# Altium footprint library AnalogDevices.PcbLib: 4 footprints
Each footprint in its own frame and in the unit in brackets; x right, y up, seen from the top. Pads: shape width x height; smd on the part's side, far side on the other; paste and mask are expansions set on the pad; w line width, h text height; cw(c..) or ccw(c..) is an arc to the next point about the centre after c.
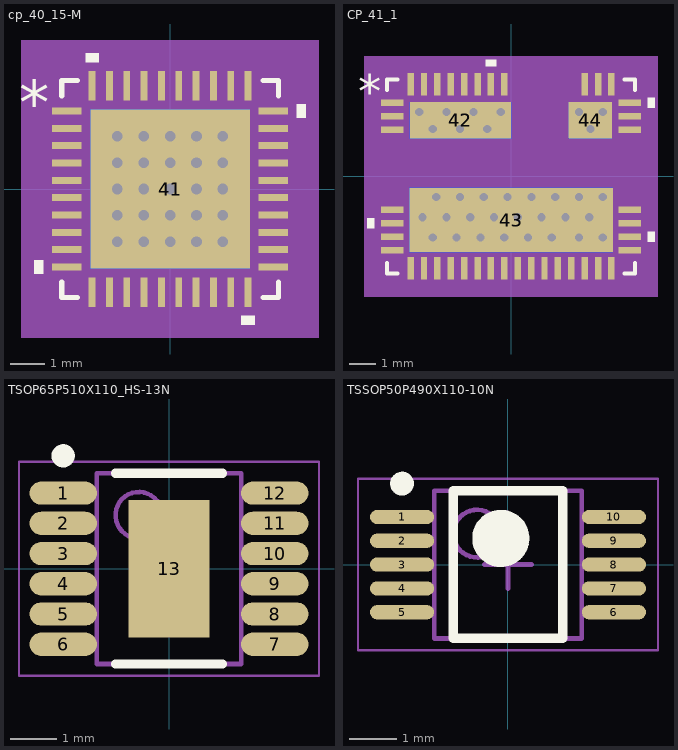
[diagram p0: the footprints below, top view; thin cyan lines are the x and y axes]

## cp_40_15-M [mm]
pads (42):
  rect 0.856x0.198 smd paste+0 mask+0: 1(-2.978,2.25) 2(-2.978,1.75) 3(-2.978,1.25) 4(-2.978,0.75) 5(-2.978,0.25) 6(-2.978,-0.25) 7(-2.978,-0.75) 8(-2.978,-1.25) 9(-2.978,-1.75) 10(-2.978,-2.25) 21(2.978,-2.25) 22(2.978,-1.75) 23(2.978,-1.25) 24(2.978,-0.75) 25(2.978,-0.25) 26(2.978,0.25) 27(2.978,0.75) 28(2.978,1.25) 29(2.978,1.75) 30(2.978,2.25)
  rect 0.198x0.856 smd paste+0 mask+0: 11(-2.25,-2.978) 12(-1.75,-2.978) 13(-1.25,-2.978) 14(-0.75,-2.978) 15(-0.25,-2.978) 16(0.25,-2.978) 17(0.75,-2.978) 18(1.25,-2.978) 19(1.75,-2.978) 20(2.25,-2.978) 31(2.25,2.978) 32(1.75,2.978) 33(1.25,2.978) 34(0.75,2.978) 35(0.25,2.978) 36(-0.25,2.978) 37(-0.75,2.978) 38(-1.25,2.978) 39(-1.75,2.978) 40(-2.25,2.978)
  rect 4.6x4.6 smd paste-2.287 mask+0: 41(0,0)
  rect 4.6x4.6 smd far side paste-2.287 mask+0: 41(0,0)
via -1.524,1.524 diameter 0.508 hole 0.305
via -0.762,1.524 diameter 0.508 hole 0.305
via 0,1.524 diameter 0.508 hole 0.305
via 0.762,1.524 diameter 0.508 hole 0.305
via 1.524,1.524 diameter 0.508 hole 0.305
via 1.524,-1.524 diameter 0.508 hole 0.305
via 0.762,-1.524 diameter 0.508 hole 0.305
via 0,-1.524 diameter 0.508 hole 0.305
via -0.762,-1.524 diameter 0.508 hole 0.305
via -1.524,-1.524 diameter 0.508 hole 0.305
via -1.524,-0.762 diameter 0.508 hole 0.305
via -0.762,-0.762 diameter 0.508 hole 0.305
via 0,-0.762 diameter 0.508 hole 0.305
via 0.762,-0.762 diameter 0.508 hole 0.305
via 1.524,-0.762 diameter 0.508 hole 0.305
via 1.524,0 diameter 0.508 hole 0.305
via 0.762,0 diameter 0.508 hole 0.305
via 0,0 diameter 0.508 hole 0.305
via -0.762,0 diameter 0.508 hole 0.305
via -1.524,0 diameter 0.508 hole 0.305
via 1.524,0.762 diameter 0.508 hole 0.305
via 0.762,0.762 diameter 0.508 hole 0.305
via 0,0.762 diameter 0.508 hole 0.305
via -0.762,0.762 diameter 0.508 hole 0.305
via -1.524,0.762 diameter 0.508 hole 0.305
Top Overlay:
  region: -3.66,-2.06 -3.914,-2.06 -3.914,-2.441 -3.66,-2.441
  region: 2.441,-3.66 2.06,-3.66 2.06,-3.914 2.441,-3.914
  region: 3.66,2.441 3.914,2.441 3.914,2.06 3.66,2.06
  region: -2.06,3.66 -2.441,3.66 -2.441,3.914 -2.06,3.914
  lines w0.152: -3.127,-2.682 -3.127,-3.127 -2.682,-3.127 ; -3.127,2.682 -3.127,3.127 -2.682,3.127 ; 2.682,-3.127 3.127,-3.127 3.127,-2.682 ; 2.682,3.127 3.127,3.127 3.127,2.682
  text "*" at -4.359,1.865 h1.27
Top Paste:
  region: -0.867,2.2 -2.2,2.2 -2.2,0.867 -0.867,0.867
  region: -0.867,0.667 -2.2,0.667 -2.2,-0.667 -0.867,-0.667
  region: -0.867,-0.867 -2.2,-0.867 -2.2,-2.2 -0.867,-2.2
  region: 0.667,2.2 -0.667,2.2 -0.667,0.867 0.667,0.867
  region: 0.667,0.667 -0.667,0.667 -0.667,-0.667 0.667,-0.667
  region: 0.667,-0.867 -0.667,-0.867 -0.667,-2.2 0.667,-2.2
  region: 2.2,2.2 0.867,2.2 0.867,0.867 2.2,0.867
  region: 2.2,0.667 0.867,0.667 0.867,-0.667 2.2,-0.667
  region: 2.2,-0.867 0.867,-0.867 0.867,-2.2 2.2,-2.2
Mechanical 5:
  region: 4.295,-4.295 -4.295,-4.295 -4.295,4.295 4.295,4.295
Mechanical 15:
  lines w0.025: -3,1.73 -1.73,3 ; -3,-3 -3,3 3,3 3,-3 -3,-3 ; -3,-2.4 -3,-2.1 -3,-2.4 ; -3,-1.9 -3,-1.6 -3,-1.9 ; -3,-1.4 -3,-1.1 -3,-1.4 ; -3,-0.9 -3,-0.6 -3,-0.9 ; -3,-0.4 -3,-0.1 -3,-0.4 ; -3,0.1 -3,0.4 -3,0.1 ; -3,0.6 -3,0.9 -3,0.6 ; -3,1.1 -3,1.4 -3,1.1 ; -3,1.6 -3,1.9 -3,1.6 ; -3,2.1 -3,2.4 -3,2.1 ; -2.4,-3 -2.1,-3 -2.4,-3 ; -2.4,3 -2.1,3 -2.4,3 ; -1.9,-3 -1.6,-3 -1.9,-3 ; -1.9,3 -1.6,3 -1.9,3 ; -1.4,-3 -1.1,-3 -1.4,-3 ; -1.4,3 -1.1,3 -1.4,3 ; -0.9,-3 -0.6,-3 -0.9,-3 ; -0.9,3 -0.6,3 -0.9,3 ; -0.4,-3 -0.1,-3 -0.4,-3 ; -0.4,3 -0.1,3 -0.4,3 ; 0.1,-3 0.4,-3 0.1,-3 ; 0.1,3 0.4,3 0.1,3 ; 0.6,-3 0.9,-3 0.6,-3 ; 0.6,3 0.9,3 0.6,3 ; 1.1,-3 1.4,-3 1.1,-3 ; 1.1,3 1.4,3 1.1,3 ; 1.6,-3 1.9,-3 1.6,-3 ; 1.6,3 1.9,3 1.6,3 ; 2.1,-3 2.4,-3 2.1,-3 ; 2.1,3 2.4,3 2.1,3 ; 3,-2.4 3,-2.1 3,-2.4 ; 3,-1.9 3,-1.6 3,-1.9 ; 3,-1.4 3,-1.1 3,-1.4 ; 3,-0.9 3,-0.6 3,-0.9 ; 3,-0.4 3,-0.1 3,-0.4 ; 3,0.1 3,0.4 3,0.1 ; 3,0.6 3,0.9 3,0.6 ; 3,1.1 3,1.4 3,1.1 ; 3,1.6 3,1.9 3,1.6 ; 3,2.1 3,2.4 3,2.1
  text "*" at -2.867,1.865 h1.27
3D body: height 0.89, standoff 0, extent -2.921,-2.921 2.921,2.921

## CP_41_1 [mm]
pads (47):
  rect 0.84x0.241 smd paste+0 mask+0: 1(-4.435,2.75) 2(-4.435,2.25) 3(-4.435,1.75) 4(-4.435,-1.25) 5(-4.435,-1.75) 6(-4.435,-2.25) 7(-4.435,-2.75) 24(4.435,-2.75) 25(4.435,-2.25) 26(4.435,-1.75) 27(4.435,-1.25) 28(4.435,1.75) 29(4.435,2.25) 30(4.435,2.75)
  rect 0.241x0.84 smd paste+0 mask+0: 8(-3.75,-3.435) 9(-3.25,-3.435) 10(-2.75,-3.435) 11(-2.25,-3.435) 12(-1.75,-3.435) 13(-1.25,-3.435) 14(-0.75,-3.435) 15(-0.25,-3.435) 16(0.25,-3.435) 17(0.75,-3.435) 18(1.25,-3.435) 19(1.75,-3.435) 20(2.25,-3.435) 21(2.75,-3.435) 22(3.25,-3.435) 23(3.75,-3.435) 31(3.75,3.435) 32(3.25,3.435) 33(2.75,3.435) 34(-0.25,3.435) 35(-0.75,3.435) 36(-1.25,3.435) 37(-1.75,3.435) 38(-2.25,3.435) 39(-2.75,3.435) 40(-3.25,3.435) 41(-3.75,3.435)
  rect 3.78x1.36 smd paste+0 mask+0: 42(-1.89,2.095)
  rect 3.78x1.36 smd far side: 42(-1.89,2.095)
  rect 7.6x2.4 smd paste+0 mask+0: 43(0,-1.628)
  rect 7.6x2.4 smd far side: 43(0,-1.628)
  rect 1.62x1.36 smd paste+0 mask+0: 44(2.96,2.095)
  rect 1.62x1.36 smd far side: 44(2.96,2.095)
via -0.381,2.413 diameter 0.508 hole 0.305
via -3.302,-1.524 diameter 0.508 hole 0.305
via -1.524,-1.524 diameter 0.508 hole 0.305
via -2.921,-2.286 diameter 0.508 hole 0.305
via -2.032,-2.286 diameter 0.508 hole 0.305
via -1.143,-2.286 diameter 0.508 hole 0.305
via -0.254,-2.286 diameter 0.508 hole 0.305
via 0.635,-2.286 diameter 0.508 hole 0.305
via 1.524,-2.286 diameter 0.508 hole 0.305
via 2.54,-2.286 diameter 0.508 hole 0.305
via 3.429,-2.286 diameter 0.508 hole 0.305
via 2.921,-1.524 diameter 0.508 hole 0.305
via 2.032,-1.524 diameter 0.508 hole 0.305
via 1.143,-1.524 diameter 0.508 hole 0.305
via 0.254,-1.524 diameter 0.508 hole 0.305
via -0.635,-1.524 diameter 0.508 hole 0.305
via -2.413,-1.524 diameter 0.508 hole 0.305
via -2.794,-0.762 diameter 0.508 hole 0.305
via -1.905,-0.762 diameter 0.508 hole 0.305
via -1.016,-0.762 diameter 0.508 hole 0.305
via -0.127,-0.762 diameter 0.508 hole 0.305
via 0.762,-0.762 diameter 0.508 hole 0.305
via 1.651,-0.762 diameter 0.508 hole 0.305
via 2.54,-0.762 diameter 0.508 hole 0.305
via 3.429,-0.762 diameter 0.508 hole 0.305
via 3.429,2.413 diameter 0.508 hole 0.305
via 2.54,2.413 diameter 0.508 hole 0.305
via -2.921,1.778 diameter 0.508 hole 0.305
via -3.429,2.413 diameter 0.508 hole 0.305
via -2.413,2.413 diameter 0.508 hole 0.305
via -1.905,1.778 diameter 0.508 hole 0.305
via -1.397,2.413 diameter 0.508 hole 0.305
via -0.889,1.778 diameter 0.508 hole 0.305
via 2.972,1.778 diameter 0.508 hole 0.305
Top Overlay:
  region: -5.109,-1.559 -5.363,-1.559 -5.363,-1.94 -5.109,-1.94
  region: 5.109,-2.06 5.363,-2.06 5.363,-2.441 5.109,-2.441
  region: 5.109,2.94 5.363,2.94 5.363,2.559 5.109,2.559
  region: -0.56,4.109 -0.941,4.109 -0.941,4.363 -0.56,4.363
  lines w0.152: -4.627,-3.233 -4.627,-3.627 -4.233,-3.627 ; -4.627,3.233 -4.627,3.627 -4.233,3.627 ; 4.233,-3.627 4.627,-3.627 4.627,-3.233 ; 4.233,3.627 4.627,3.627 4.627,3.233
  text "*" at -5.715,2.54 h1.27
Mechanical 5:
  region: 5.49,-4.49 -5.49,-4.49 -5.49,4.49 5.49,4.49
Mechanical 15:
  drawing of 159 lines, arcs and shapes, not listed
  text "*" at -5.172,2.746 h1.27
3D body: height 0.89, standoff 0, extent -4.445,-3.429 4.445,3.429

## TSOP65P510X110_HS-13N [mm] "TSOP, 12-Leads, Body 4.00x3.00mm, Pitch 0.65mm, Thermal Pad 2.95x1.75mm, IPC Medium Density"
height 1.1
pads (13):
  oval 1.45x0.5 smd: 1(-2.275,1.625) 2(-2.275,0.975) 3(-2.275,0.325) 4(-2.275,-0.325) 5(-2.275,-0.975) 6(-2.275,-1.625) 7(2.275,-1.625) 8(2.275,-0.975) 9(2.275,-0.325) 10(2.275,0.325) 11(2.275,0.975) 12(2.275,1.625)
  rect 1.75x2.95 smd: 13(0,0)
Top Overlay:
  circle w0.25: c-2.275,2.425 r0.125
  lines w0.2: -1.15,-2.05 1.15,-2.05 ; -1.15,2.05 1.15,2.05
Mechanical 13:
  circle w0.1: c-0.65,1.15 r0.5
  lines w0.1: -1.55,-2.05 -1.55,2.05 1.55,2.05 1.55,-2.05 -1.55,-2.05
Mechanical 15:
  lines w0.05: -3.225,-2.3 -3.225,2.3 3.225,2.3 3.225,-2.3 -3.225,-2.3
  lines w0.1: -0.5,0 0.5,0 ; 0,-0.5 0,0.5
3D body: height 1.1, standoff 0.1, extent -1.55,-2.05 1.55,2.05

## TSSOP50P490X110-10N [mm] "TSSOP, 10-Leads, Body 3.00x3.00mm, Pitch 0.50mm, IPC Medium Density"
height 1.1
pads (10):
  oval 1.35x0.3 smd: 1(-2.225,1) 2(-2.225,0.5) 3(-2.225,0) 4(-2.225,-0.5) 5(-2.225,-1) 6(2.225,-1) 7(2.225,-0.5) 8(2.225,0) 9(2.225,0.5) 10(2.225,1)
Top Overlay:
  circle w0.6: c-0.15,0.55 r0.3
  circle w0.25: c-2.225,1.7 r0.125
  lines w0.2: -1.15,-1.55 1.15,-1.55 1.15,1.55 -1.15,1.55 -1.15,-1.55
Mechanical 13:
  circle w0.1: c-0.65,0.65 r0.5
  lines w0.1: -1.55,-1.55 1.55,-1.55 1.55,1.55 -1.55,1.55 -1.55,-1.55
Mechanical 15:
  lines w0.05: -3.15,-1.8 3.15,-1.8 3.15,1.8 -3.15,1.8 -3.15,-1.8
  lines w0.1: -0.5,0 0.5,0 ; 0,-0.5 0,0.5
3D body: height 1.1, standoff 0.1, extent -1.55,-1.55 1.55,1.55